# Altium schematic symbol library SnapEDAsch.SchLib: 1 symbol
Pins are listed as number, name and electrical type; pins without a type are passive.

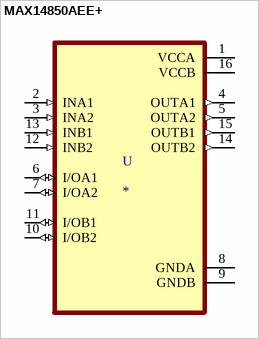
[diagram p0: symbol MAX14850AEE+]

## MAX14850AEE+
designator U
General Purpose Digital Isolator 600Vrms 6 Channel 2Mbps, 50Mbps 1.5kV/Âµs CMTI 16-SSOP (0.154, 3.90mm Width); MF: Maxim Integrated; MP: MAX14850AEE+; Price: None; Package: QSOP-16 Maxim; Availability: Unavailable; Value: *; SnapEDA_Link: https://www.snapeda.com/parts/MAX14850AEE+/Maxim%20Integrated/view-part/1150679/?ref=snap
footprint SOP63P602X175-16N
pins: 1 VCCA (power), 2 INA1 (in), 3 INA2 (in), 4 OUTA1 (out), 5 OUTA2 (out), 6 I/OA1 (io), 7 I/OA2 (io), 8 GNDA (power), 9 GNDB (power), 10 I/OB2 (io), 11 I/OB1 (io), 12 INB2 (in), 13 INB1 (in), 14 OUTB2 (out), 15 OUTB1 (out), 16 VCCB (power)